# Altium footprint library SOIC4P400_505X640X130L70X60N.PcbLib: 1 footprints
Each footprint in its own frame and in the unit in brackets; x right, y up, seen from the top. Pads: shape width x height; smd on the part's side, far side on the other; paste and mask are expansions set on the pad; w line width, h text height; cw(c..) or ccw(c..) is an arc to the next point about the centre after c.
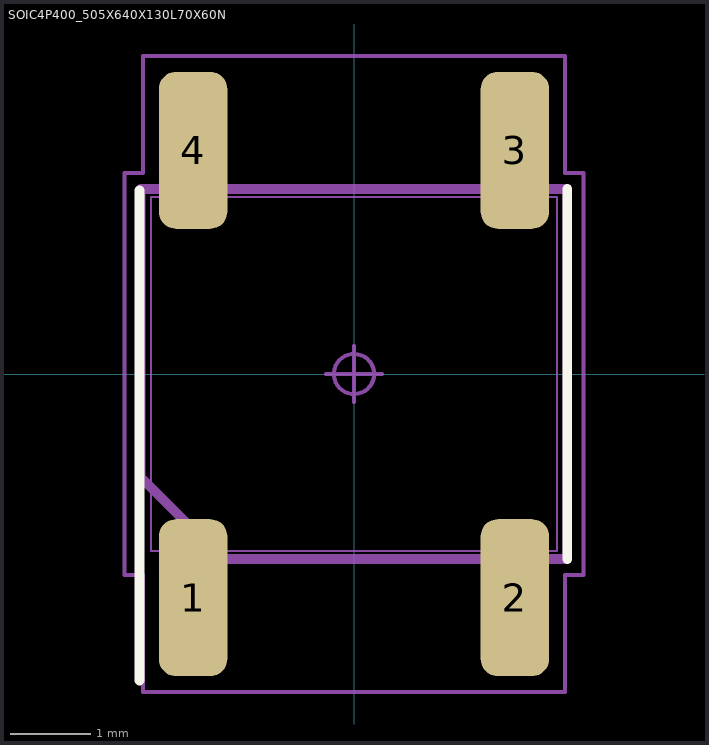
[diagram p0: the footprint, top view; thin cyan lines are the x and y axes]

## SOIC4P400_505X640X130L70X60N [mm] "Small Outline IC (SOIC), 4.00 mm pitch; 4 pin, 5.05 mm L X 4.40 mm W X 1.30 mm H body"
height 1.3
pads (4):
  rrect49% 0.85x1.95 smd: 1(-2,-2.78) 2(2,-2.78) 3(2,2.78) 4(-2,2.78)
Top Overlay:
  lines w0.12: -2.667,-3.81 -2.667,2.286 ; 2.65,-2.3 2.65,2.3
Mechanical 3:
  lines w0.12: -2.65,-1.287 -1.637,-2.3 2.65,-2.3 2.65,2.3 -2.65,2.3 -2.65,-1.287
Mechanical 5:
  lines w0.025: -2.525,-2.2 -2.525,2.2 2.525,2.2 2.525,-2.2 -2.525,-2.2 ; -2.3,-3.2 -1.7,-3.2 -1.7,-2.5 -2.3,-2.5 -2.3,-3.2 ; -2.3,2.5 -1.7,2.5 -1.7,3.2 -2.3,3.2 -2.3,2.5 ; 1.7,-3.2 2.3,-3.2 2.3,-2.5 1.7,-2.5 1.7,-3.2 ; 1.7,2.5 2.3,2.5 2.3,3.2 1.7,3.2 1.7,2.5
Mechanical 7:
  circle w0.05: c0,0 r0.25
  lines w0.05: -0.35,0 0.35,0 ; 0,-0.35 0,0.35 ; -2.85,-2.5 -2.85,2.5 -2.625,2.5 -2.625,3.955 2.625,3.955 2.625,2.5 2.85,2.5 2.85,-2.5 2.625,-2.5 2.625,-3.955 -2.625,-3.955 -2.625,-2.5 -2.85,-2.5
Mechanical 9:
  text "'.Designator'" at -6.501,-0.937 h1
3D body "SOIC4P400_505X640X130L70X60.STEP": height 1.3, standoff 0, extent -2.525,-3.2 2.525,3.2
3D body: height 1, standoff 0, extent -2.85,-3.955 2.85,3.955